# EAGLE library part 25PIN (library ORBiT-con-CardEdge)
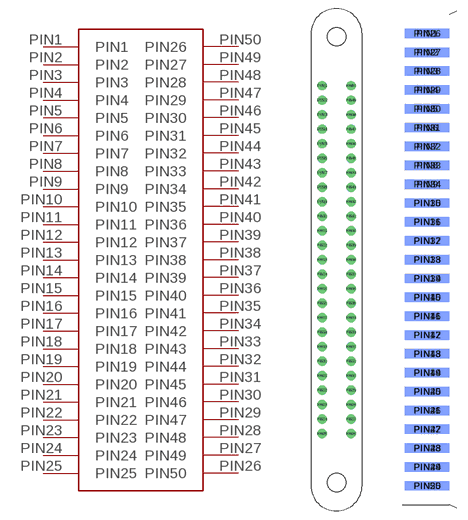
[diagram p1: symbol with the pads of 25PIN_SCREW; footprints 25PIN_SCREW, 25PIN_BOARD]

Designator prefix -

## 25PINTHROUGH  [25PIN_SCREW]
PIN1  PIN1
PIN2  PIN2
PIN3  PIN3
PIN4  PIN4
PIN5  PIN5
PIN6  PIN6
PIN7  PIN7
PIN8  PIN8
PIN9  PIN9
PIN10  PIN10
PIN11  PIN11
PIN12  PIN12
PIN13  PIN13
PIN14  PIN14
PIN15  PIN15
PIN16  PIN16
PIN17  PIN17
PIN18  PIN18
PIN19  PIN19
PIN20  PIN20
PIN21  PIN21
PIN22  PIN22
PIN23  PIN23
PIN24  PIN24
PIN25  PIN25
PIN26  PIN50
PIN27  PIN49
PIN28  PIN48
PIN29  PIN47
PIN30  PIN46
PIN31  PIN45
PIN32  PIN44
PIN33  PIN43
PIN34  PIN42
PIN35  PIN41
PIN36  PIN40
PIN37  PIN39
PIN38  PIN38
PIN39  PIN37
PIN40  PIN36
PIN41  PIN35
PIN42  PIN34
PIN43  PIN33
PIN44  PIN32
PIN45  PIN31
PIN46  PIN30
PIN47  PIN29
PIN48  PIN28
PIN49  PIN27
PIN50  PIN26

## 25PINEDGE  [25PIN_BOARD]
PIN1  PIN1
PIN2  PIN2
PIN3  PIN3
PIN4  PIN4
PIN5  PIN5
PIN6  PIN6
PIN7  PIN7
PIN8  PIN8
PIN9  PIN9
PIN10  PIN10
PIN11  PIN11
PIN12  PIN12
PIN13  PIN13
PIN14  PIN14
PIN15  PIN15
PIN16  PIN16
PIN17  PIN17
PIN18  PIN18
PIN19  PIN19
PIN20  PIN20
PIN21  PIN21
PIN22  PIN22
PIN23  PIN23
PIN24  PIN24
PIN25  PIN25
PIN26  PIN26
PIN27  PIN27
PIN28  PIN28
PIN29  PIN29
PIN30  PIN30
PIN31  PIN31
PIN32  PIN32
PIN33  PIN33
PIN34  PIN34
PIN35  PIN35
PIN36  PIN36
PIN37  PIN37
PIN38  PIN38
PIN39  PIN39
PIN40  PIN40
PIN41  PIN41
PIN42  PIN42
PIN43  PIN43
PIN44  PIN44
PIN45  PIN45
PIN46  PIN46
PIN47  PIN47
PIN48  PIN48
PIN49  PIN49
PIN50  PIN50

## Footprint 25PIN_SCREW (pad centres in mm)
drill 1.1: PIN1 0,0; PIN2 0,-2.54; PIN3 0,-5.08; PIN4 0,-7.62; PIN5 0,-10.16; PIN6 0,-12.7; PIN7 0,-15.24; PIN8 0,-17.78; PIN9 0,-20.32; PIN10 0,-22.86; PIN11 0,-25.4; PIN12 0,-27.94; PIN13 0,-30.48; PIN14 0,-33.02; PIN15 0,-35.56; PIN16 0,-38.1; PIN17 0,-40.64; PIN18 0,-43.18; PIN19 0,-45.72; PIN20 0,-48.26; PIN21 0,-50.8; PIN22 0,-53.34; PIN23 0,-55.88; PIN24 0,-58.42; PIN25 0,-60.96; PIN26 5.08,-60.96; PIN27 5.08,-58.42; PIN28 5.08,-55.88; PIN29 5.08,-53.34; PIN30 5.08,-50.8; PIN31 5.08,-48.26; PIN32 5.08,-45.72; PIN33 5.08,-43.18; PIN34 5.08,-40.64; PIN35 5.08,-38.1; PIN36 5.08,-35.56; PIN37 5.08,-33.02; PIN38 5.08,-30.48; PIN39 5.08,-27.94; PIN40 5.08,-25.4; PIN41 5.08,-22.86; PIN42 5.08,-20.32; PIN43 5.08,-17.78; PIN44 5.08,-15.24; PIN45 5.08,-12.7; PIN46 5.08,-10.16; PIN47 5.08,-7.62; PIN48 5.08,-5.08; PIN49 5.08,-2.54; PIN50 5.08,0
hole 3.18 at 2.54,8.575
hole 3.18 at 2.54,-69.535

## Footprint 25PIN_BOARD (pad centres in mm)
smd 6 x 1.27: PIN1 0,0; PIN2 0,-2.54; PIN3 0,-5.08; PIN4 0,-7.62; PIN5 0,-10.16; PIN6 0,-12.7; PIN7 0,-15.24; PIN8 0,-17.78; PIN9 0,-20.32; PIN10 0,-22.86; PIN11 0,-25.4; PIN12 0,-27.94; PIN13 0,-30.48; PIN14 0,-33.02; PIN15 0,-35.56; PIN16 0,-38.1; PIN17 0,-40.64; PIN18 0,-43.18; PIN19 0,-45.72; PIN20 0,-48.26; PIN21 0,-50.8; PIN22 0,-53.34; PIN23 0,-55.88; PIN24 0,-58.42; PIN25 0,-60.96
smd 6 x 1.27 bottom: PIN26 0,0; PIN27 0,-2.54; PIN28 0,-5.08; PIN29 0,-7.62; PIN30 0,-10.16; PIN31 0,-12.7; PIN32 0,-15.24; PIN33 0,-17.78; PIN34 0,-20.32; PIN35 0,-22.86; PIN36 0,-25.4; PIN37 0,-27.94; PIN38 0,-30.48; PIN39 0,-33.02; PIN40 0,-35.56; PIN41 0,-38.1; PIN42 0,-40.64; PIN43 0,-43.18; PIN44 0,-45.72; PIN45 0,-48.26; PIN46 0,-50.8; PIN47 0,-53.34; PIN48 0,-55.88; PIN49 0,-58.42; PIN50 0,-60.96